# Altium schematic symbol library audio_mic_spk.SchLib: 7 symbols
Pins are listed as number, name and electrical type; pins without a type are passive.

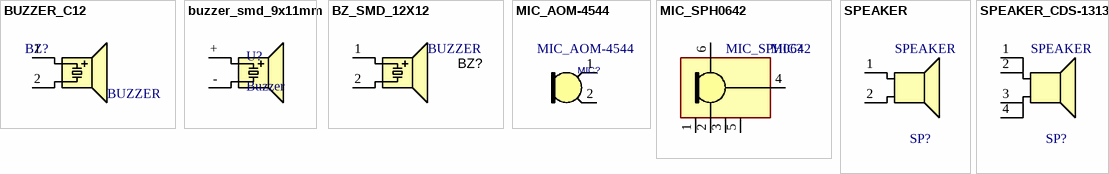
[diagram p0: symbols BUZZER_C12 to SPEAKER_CDS-13138]

## BUZZER_C12
designator BZ?, comment BUZZER
Buzzer, 12X8.5mm, Magnetic Transducer; MANF: Buerklin, CUI; MANF_P#: CM12P, MT03-H1BHP, BMT1205XH7.5, CEM-1201(50); PARAM: 2048 ±200 Hz; PRICE: PRICE; VALUE: BUZZER
footprint BZ_C12 (BUZZER 12mm DIA, 8.5mm Height , 7.62mm pitch)
pins: 1 A, 2 B

## buzzer_smd_9x11mm
designator U?, comment Buzzer
footprint buzzer_smd_9x11mm
pins: + A, - B

## BZ_SMD_12X12
designator BZ?, comment BUZZER
Buzzer, SMD, 12.8X12.8X7.6mm LWH, Magnetic; PARAM: 2.4KHz, 87dB @ 5V, 10cm; PARAM2: 5VCC, 3~8V, 40mA; MANF: CUI, Mallory Sonalert; MANF_P#: CT-1205-SMT, ASI301Q; PRICE: PRICE; Value: BUZZER
footprint BZ_SMD_S12 (Buzzer SMD sealed 12.8 L x 12.8 W x 7.6mm H 5Vp, CT-1205-SMT)
pins: 1 A, 2 B

## MIC_AOM-4544
designator MIC?
MICROPHONE, 2.2KOHM -44DB TH; MANF: PUI; MANF_P#: AOM-4544P-2-R; PRICE: $1.6; Value: MIC_AOM-4544
footprint MIC_C6 (MIC, WM-63PR, POM-3535P-3-R)
pins: 1 OUT, 2 GND

## MIC_SPH0642
designator MIC?
MICROPHONE, MEMS; MANF: Knowles; MANF_P#: SPH0642HT5H-1; PRICE: PRICE; VALUE: MIC_SPH0642
footprint MIC_SPH0642 (SPH0642HT5H-1 Knowles MIC-MEMS 6-LEADS, 3.5X2.65mm)
pins: 1 GND1, 2 GND2, 3 GND3, 4 OUT, 5 GND4, 6 VDD

## SPEAKER
designator SP?
PRICE: PRICE; VALUE: SPEAKER
footprint SPK
pins: 1 A, 2 B

## SPEAKER_CDS-13138
designator SP?, comment SPEAKER
SPEAKER, 8Ohm, 87dB, SMD; MANF: CUI; PARAM2: 300mW; MANF_P#: CDS-13138-SMT; PARAM: 8Ohm, 87dB; PRICE: $8; VALUE: SPEAKER
footprint SPK_SMD_S13 (SPEAKER, CDS-13138-SMT 13X13mm)
pins: 1 A, 2, 3, 4